# Altium footprint library SWITCH_ROCKER.PcbLib: 4 footprints
Each footprint in its own frame and in the unit in brackets; x right, y up, seen from the top. Pads: shape width x height; smd on the part's side, far side on the other; paste and mask are expansions set on the pad; w line width, h text height; cw(c..) or ccw(c..) is an arc to the next point about the centre after c.
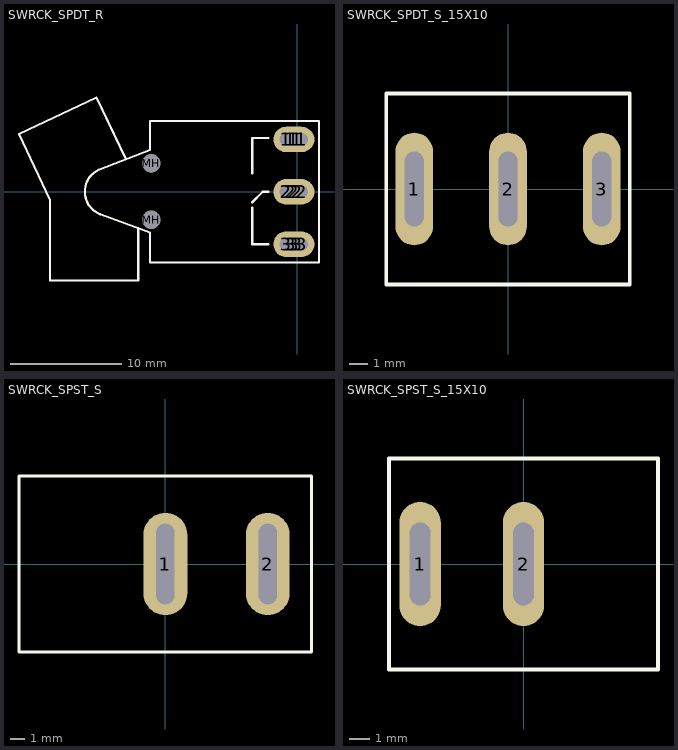
[diagram p0: the footprints below, top view; thin cyan lines are the x and y axes]

## SWRCK_SPDT_R [mil] "SWITCH Rocker, SPDT, RightAngle"
pads (17):
  round 90 hole 45: 1(-39.37,185.04) 1(-23.62,185.04) 1(0,185.04) 1(15.75,185.04) 2(-39.37,0) 2(-23.62,0) 2(0,0) 2(15.75,0) 3(-39.37,-185.04) 3(-23.62,-185.04) 3(0,-185.04) 3(15.75,-185.04)
  oval 140x90 hole 45: 1(-11.81,185) 2(-11.81,0) 3(-11.81,-185)
  round 63 hole 65: MH(-515.75,-98.43) MH(-515.75,100.36)
Top Overlay:
  lines w7.87: -700.13,78.6 ccw(c-664.37,0.46) -696.24,-79.34 ; -698.82,78.74 -519.68,147.73 -519.68,250 76.99,250 76.99,-250 -519.68,-250 -519.68,-144.17 -693.95,-80.52 ; -607,119 -709,333 -983,204 -873,-29 -873,-313 -562,-313 -562,-128 ; -160,-38 -121.81,0 -101.81,0 ; -158.81,-55 -158.81,-185 -101.81,-185 ; -158.81,65 -158.81,190 -101.81,190
3D body "SW3dPS-300-sp1-j1-blk.STEP": height 379.35, standoff -125.15, extent -986.44,-312.76 17.06,336.12

## SWRCK_SPDT_S_15X10 [mm] "SWITCH Rocker, SPDT, Straight, 15x10"
pads (3):
  oval 2x6 hole 1 slot 4 at 90 deg: 1(-5,0) 2(0,0) 3(5,0)
Top Overlay:
  lines w0.2: -6.5,-5.1 6.5,-5.1 6.5,5.1 -6.5,5.1 -6.5,-5.1
3D body "KCD1-11-3P-Off.step": height 13.1, standoff -5.6, extent -7.6,-5.25 7.6,5.25

## SWRCK_SPST_S [mm] "SWITCH Rocker, SPST, Straight"
pads (2):
  oval 3x7 / inner oval 3x7 / far side rect 3x7 hole 1.25 slot 5.5 at 90 deg: 1(0,0) 2(7,0)
Top Overlay:
  lines w0.2: -10,-6 -10,6 10,6 10,-6 -10,-6
3D body "button-1.STEP": height 16.8, standoff -8, extent -11.25,-8.5 11.25,8.5

## SWRCK_SPST_S_15X10 [mm] "SWITCH Rocker, SPST, Straight, 15x10"
pads (2):
  oval 2x6 hole 1 slot 4 at 90 deg: 1(-5,0) 2(0,0)
Top Overlay:
  lines w0.2: -6.5,-5.1 6.5,-5.1 6.5,5.1 -6.5,5.1 -6.5,-5.1
3D body "KCD1-11-3P-Off.step": height 13.1, standoff -5.6, extent -7.6,-5.25 7.6,5.25